# EAGLE library part AVR_ISP_PAD (library USB_tester)
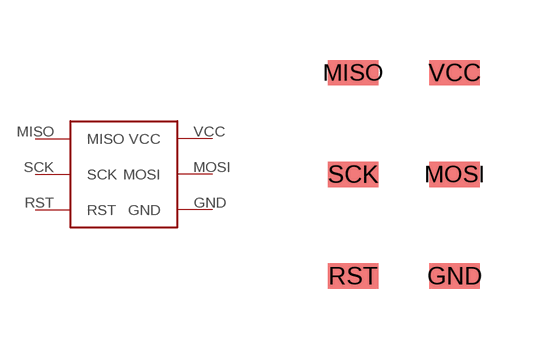
[diagram p0: symbol with the pads of AVR_ISP_PAD; footprint AVR_ISP_PAD]

Designator prefix -

## AVR_ISP_PAD  [AVR_ISP_PAD]
GND  GND
MISO  MISO
MOSI  MOSI
RST  RST
SCK  SCK
VCC  VCC

## Footprint AVR_ISP_PAD (pad centres in mm)
smd 1.27 x 0.635: GND 1.27,-2.54; MISO -1.27,2.54; MOSI 1.27,0; RST -1.27,-2.54; SCK -1.27,0; VCC 1.27,2.54